# EAGLE library part MC34063ADR2G (library robione)
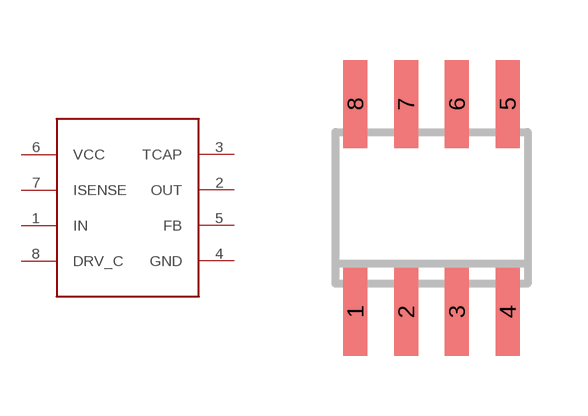
[diagram p0: symbol with the pads of SO08; footprint SO08]

Designator prefix -

## MC34063ADR2G  [SO08]
1  IN  in
2  OUT  out
3  TCAP  in
4  GND  pwr
5  FB  in
6  VCC  pwr
7  ISENSE  in
8  DRV_C

## Footprint SO08 (pad centres in mm)
Small Outline Package 8 NS Package M08A
smd 0.6 x 2.2: 1 -1.905,-2.6; 2 -0.635,-2.6; 3 0.635,-2.6; 4 1.905,-2.6; 5 1.905,2.6; 6 0.635,2.6; 7 -0.635,2.6; 8 -1.905,2.6